# EAGLE library part RV8564C3 (library BlueHome)
Real Time Clock |SM| 3.7 x 2.5 mm | I2C Bus Sub miniature size AEC Q200 Rev C compliant Compliant with I2C-Bus interface (400kHz) Built in crystal for adjustment-free operation Programmable alarm, timer and interrupt functions Low power consumption datasheet <http://www.golledge.com/docs/products/rtcs/rv8564c3.htm?src=eagle>
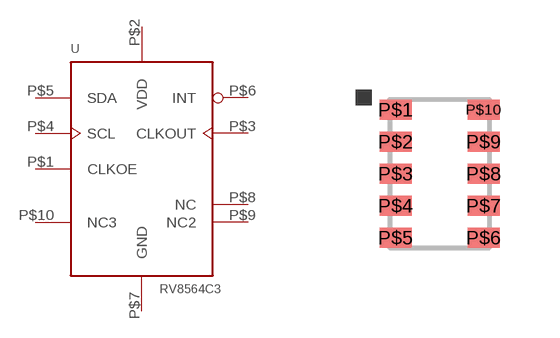
[diagram p2: symbol with the pads of RTC-C3; footprint RTC-C3]

Designator prefix U

## RV8564C3 (AVAILABILITY: Unavailable; DESCRIPTION: Rtc Module 20ppm -40/+85; MF: Micro Crystal; MP: RV-8564-C3; PACKAGE: None; PRICE: None)  [RTC-C3]
P$1  CLKOE  in
P$2  VDD  pwr
P$3  CLKOUT  out
P$4  SCL  in
P$5  SDA  in
P$6  INT  out
P$7  GND  pwr
P$8  NC  nc
P$9  NC2  nc
P$10  NC3  nc

## Footprint RTC-C3 (pad centres in mm)
RTC module C3 package
smd 0.8 x 0.5: P$1 -1.1,1.6; P$2 -1.1,0.8; P$3 -1.1,0; P$4 -1.1,-0.8; P$5 -1.1,-1.6; P$6 1.1,-1.6; P$7 1.1,-0.8; P$8 1.1,0; P$9 1.1,0.8; P$10 1.1,1.6